# Altium footprint library NAR105.PcbLib: 1 footprints
Each footprint in its own frame and in the unit in brackets; x right, y up, seen from the top. Pads: shape width x height; smd on the part's side, far side on the other; paste and mask are expansions set on the pad; w line width, h text height; cw(c..) or ccw(c..) is an arc to the next point about the centre after c.
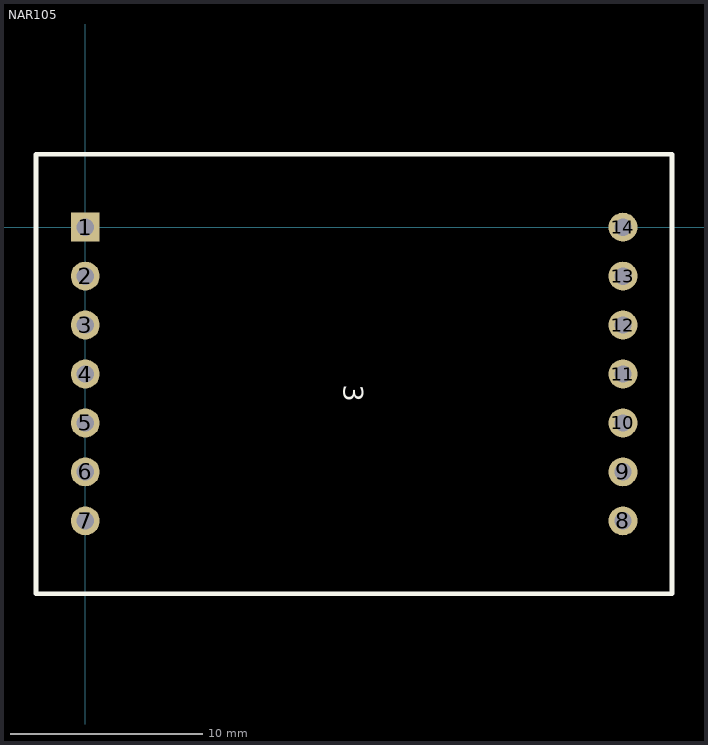
[diagram p0: the footprint, top view; thin cyan lines are the x and y axes]

## NAR105 [mm]
pads (14):
  rect 1.5x1.5 hole 0.9: 1(0,0)
  round 1.5 hole 0.9: 2(0,-2.54) 3(0,-5.08) 4(0,-7.62) 5(0,-10.16) 6(0,-12.7) 7(0,-15.24) 8(27.9,-15.24) 9(27.9,-12.7) 10(27.9,-10.16) 11(27.9,-7.62) 12(27.9,-5.08) 13(27.9,-2.54) 14(27.9,0)
Top Overlay:
  lines w0.254: -2.565,-19.025 -2.565,3.785 30.455,3.785 30.455,-19.025 -2.565,-19.025
  text "3" at 13.411,-8.179 h1.02
3D body: height 9, standoff -4, extent -2.581,-19.015 30.419,3.785